# EAGLE library part ADN4664 (library Shohei)
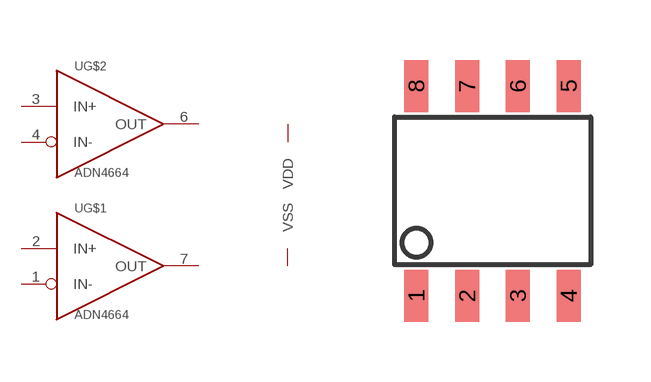
[diagram p26: symbol with the pads of SOIC8; footprint SOIC8]

Designator prefix -; gates G$1=LINE_DRIVER G$2=LINE_DRIVER G$3=POWER

## ADN4664  [SOIC8]
1  G$1:IN-
2  G$1:IN+
3  G$2:IN+
4  G$2:IN-
5  G$3:VSS
6  G$2:OUT
7  G$1:OUT
8  G$3:VDD

## Footprint SOIC8 (pad centres in mm)
smd 0.6 x 1.3: 1 -1.905,-2.625; 2 -0.635,-2.625; 3 0.635,-2.625; 4 1.905,-2.625; 5 1.905,2.625; 6 0.635,2.625; 7 -0.635,2.625; 8 -1.905,2.625